# EAGLE library part BGM111 (library Main Components)
Silicon Labs BGM111 Full-Stack Bluetooth Module ARM Cortex M4, 32kB RAM, 256kB Flash Mouser <https://www.mouser.com/ProductDetail/BGM111E256V2> Silicon Labs <https://www.silabs.com/products/wireless/bluetooth/bluetooth-low-energy-modules/bgm111-bluetooth-low-energy-module>
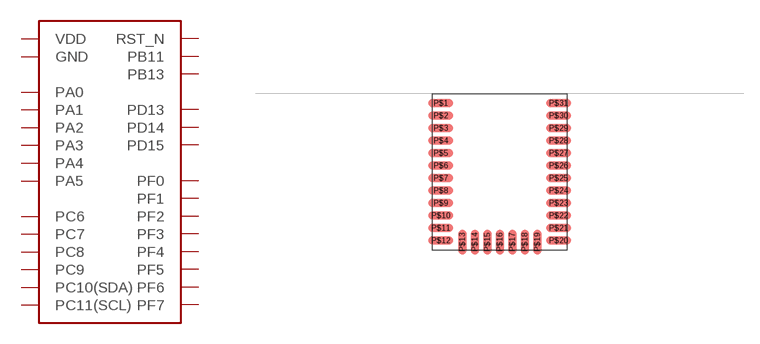
[diagram p0: symbol with the pads of BGM111; footprint BGM111]

Designator prefix -

## BGM111 (VALUE: BGM111)  [BGM111]
P$1  GND
P$2  PD13
P$3  PD14
P$4  PD15
P$5  PA0
P$6  PA1
P$7  PA2
P$8  PA3
P$9  PA4
P$10  PA5
P$11  PB11
P$12  GND
P$13  PB13
P$14  PC6
P$15  PC7
P$16  PC8
P$17  PC9
P$18  PC10(SDA)
P$19  PC11(SCL)
P$20  GND
P$21  PF0
P$22  PF1
P$23  PF2
P$24  PF3
P$25  PF4
P$26  PF5
P$27  PF6
P$28  PF7
P$29  VDD
P$30  RST_N
P$31  GND

## Footprint BGM111 (pad centres in mm)
smd 2.4 x 0.8: P$1 -5.65,-0.94; P$2 -5.65,-2.14; P$3 -5.65,-3.34; P$4 -5.65,-4.54; P$5 -5.65,-5.74; P$6 -5.65,-6.94; P$7 -5.65,-8.14; P$8 -5.65,-9.34; P$9 -5.65,-10.54; P$10 -5.65,-11.74; P$11 -5.65,-12.94; P$12 -5.65,-14.14; P$20 5.65,-14.14; P$21 5.65,-12.94; P$22 5.65,-11.74; P$23 5.65,-10.54; P$24 5.65,-9.34; P$25 5.65,-8.14; P$26 5.65,-6.94; P$27 5.65,-5.74; P$28 5.65,-4.54; P$29 5.65,-3.34; P$30 5.65,-2.14; P$31 5.65,-0.94
smd 0.8 x 2.4: P$13 -3.58,-14.28; P$14 -2.38,-14.28; P$15 -1.18,-14.28; P$16 0.02,-14.28; P$17 1.22,-14.28; P$18 2.42,-14.28; P$19 3.62,-14.28